# EAGLE library part 90814-0910 (library Molex_By_element14_Batch_1)
CONN HEADER 10POS 1.27MM SMD TIN
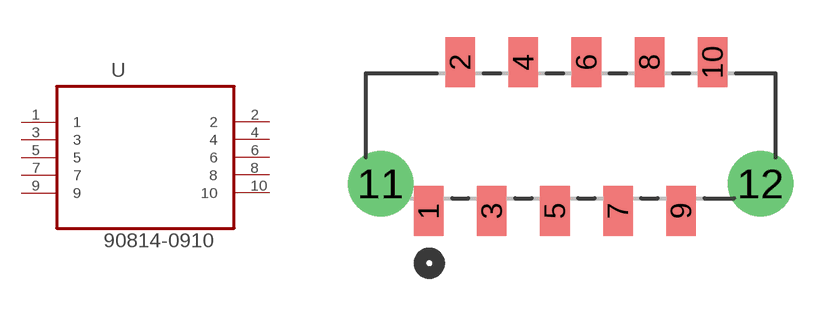
[diagram p68: symbol with the pads of MOLEX_90814-0910; footprint MOLEX_90814-0910]

Designator prefix U

## 90814-0910 (MPN: 90814-0910; OC_FARNELL: 1757038; OC_NEWARK: 34R6228; PACKAGE: CONN-10POS; SUPPLIER: Molex)  [MOLEX_90814-0910]
1  1  pas
2  2  pas
3  3  pas
4  4  pas
5  5  pas
6  6  pas
7  7  pas
8  8  pas
9  9  pas
10  10  pas

## Footprint MOLEX_90814-0910 (pad centres in mm)
smd 1.194 x 2.007: 1 0,0; 2 1.27,5.994; 3 2.54,0; 4 3.81,5.994; 5 5.08,0; 6 6.35,5.994; 7 7.62,0; 8 8.89,5.994; 9 10.16,0; 10 11.43,5.994
drill 1.753: 11 -1.93,1.092; 12 13.36,1.092